# EAGLE library part L717SDB25PA4CH3R (library L717SDB25PA4CH3R)
Dsub, Stamped Signal 3A, Right Angle PCB Through Hole, FP=8.08mm (0.318in), Row Pitch 2.84mm, 25 Pin, Flash Gold, Bright Tin Shell+Grounding Dimples, M3 Rear Insert, Ground Tab with Boardlock Source: Datasheet <https://cdn.amphenol-cs.com/media/wysiwyg/files/drawing/l717sdxxxpa4ch3r.pdf>
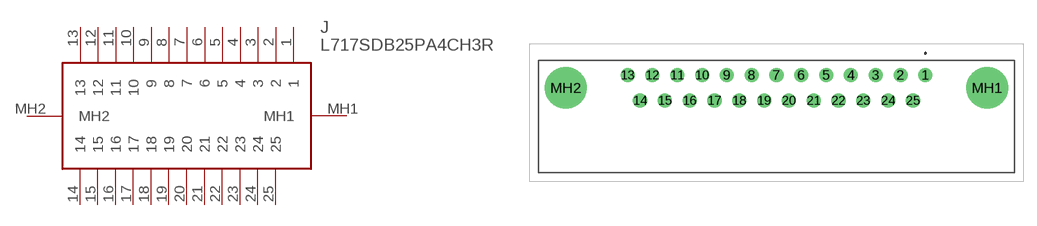
[diagram p0: symbol with the pads of L717SDB25PA4CH3R; footprint L717SDB25PA4CH3R]

Designator prefix J

## L717SDB25PA4CH3R (Description: Dsub, Stamped Signal 3A, Right Angle PCB Through Hole, FP=8.08mm (0.318in), Row Pitch 2.84mm, 25 Pin, Flash Gold, Bright Tin Shell+Grounding Dimples, M3 Rear Insert, Ground Tab with Boardlock; Height: 12.55mm; Manufacturer_Name: Amphenol Communications Solutions; Manufacturer_Part_Number: L717SDB25PA4CH3R; Mouser_Part_Number: 523-L717SDB25PA4CH3R; Mouser_Price-Stock: https://www.mouser.co.uk/ProductDetail/Amphenol-Commercial-Products/L717SDB25PA4CH3R?qs=wLKqLMNa9uLx5EBU2ISlaA%3D%3D)  [L717SDB25PA4CH3R]
1  1
2  2
3  3
4  4
5  5
6  6
7  7
8  8
9  9
10  10
11  11
12  12
13  13
14  14
15  15
16  16
17  17
18  18
19  19
20  20
21  21
22  22
23  23
24  24
25  25
MH1  MH1
MH2  MH2

## Footprint L717SDB25PA4CH3R (pad centres in mm)
L717SDB25PA4CH3R-2
drill 1.05 pad 1.575: 1 0,0; 2 -2.77,0; 3 -5.54,0; 4 -8.31,0; 5 -11.08,0; 6 -13.85,0; 7 -16.62,0; 8 -19.39,0; 9 -22.16,0; 10 -24.93,0; 11 -27.7,0; 12 -30.47,0; 13 -33.24,0; 14 -31.855,-2.84; 15 -29.085,-2.84; 16 -26.315,-2.84; 17 -23.545,-2.84; 18 -20.775,-2.84; 19 -18.005,-2.84; 20 -15.235,-2.84; 21 -12.465,-2.84; 22 -9.695,-2.84; 23 -6.925,-2.84; 24 -4.155,-2.84; 25 -1.385,-2.84
drill 3.1 pad 4.65: MH1 6.9,-1.42; MH2 -40.14,-1.42